# Altium integrated library NSC MiscPower.IntLib: 742 symbols (part 6 of 19)
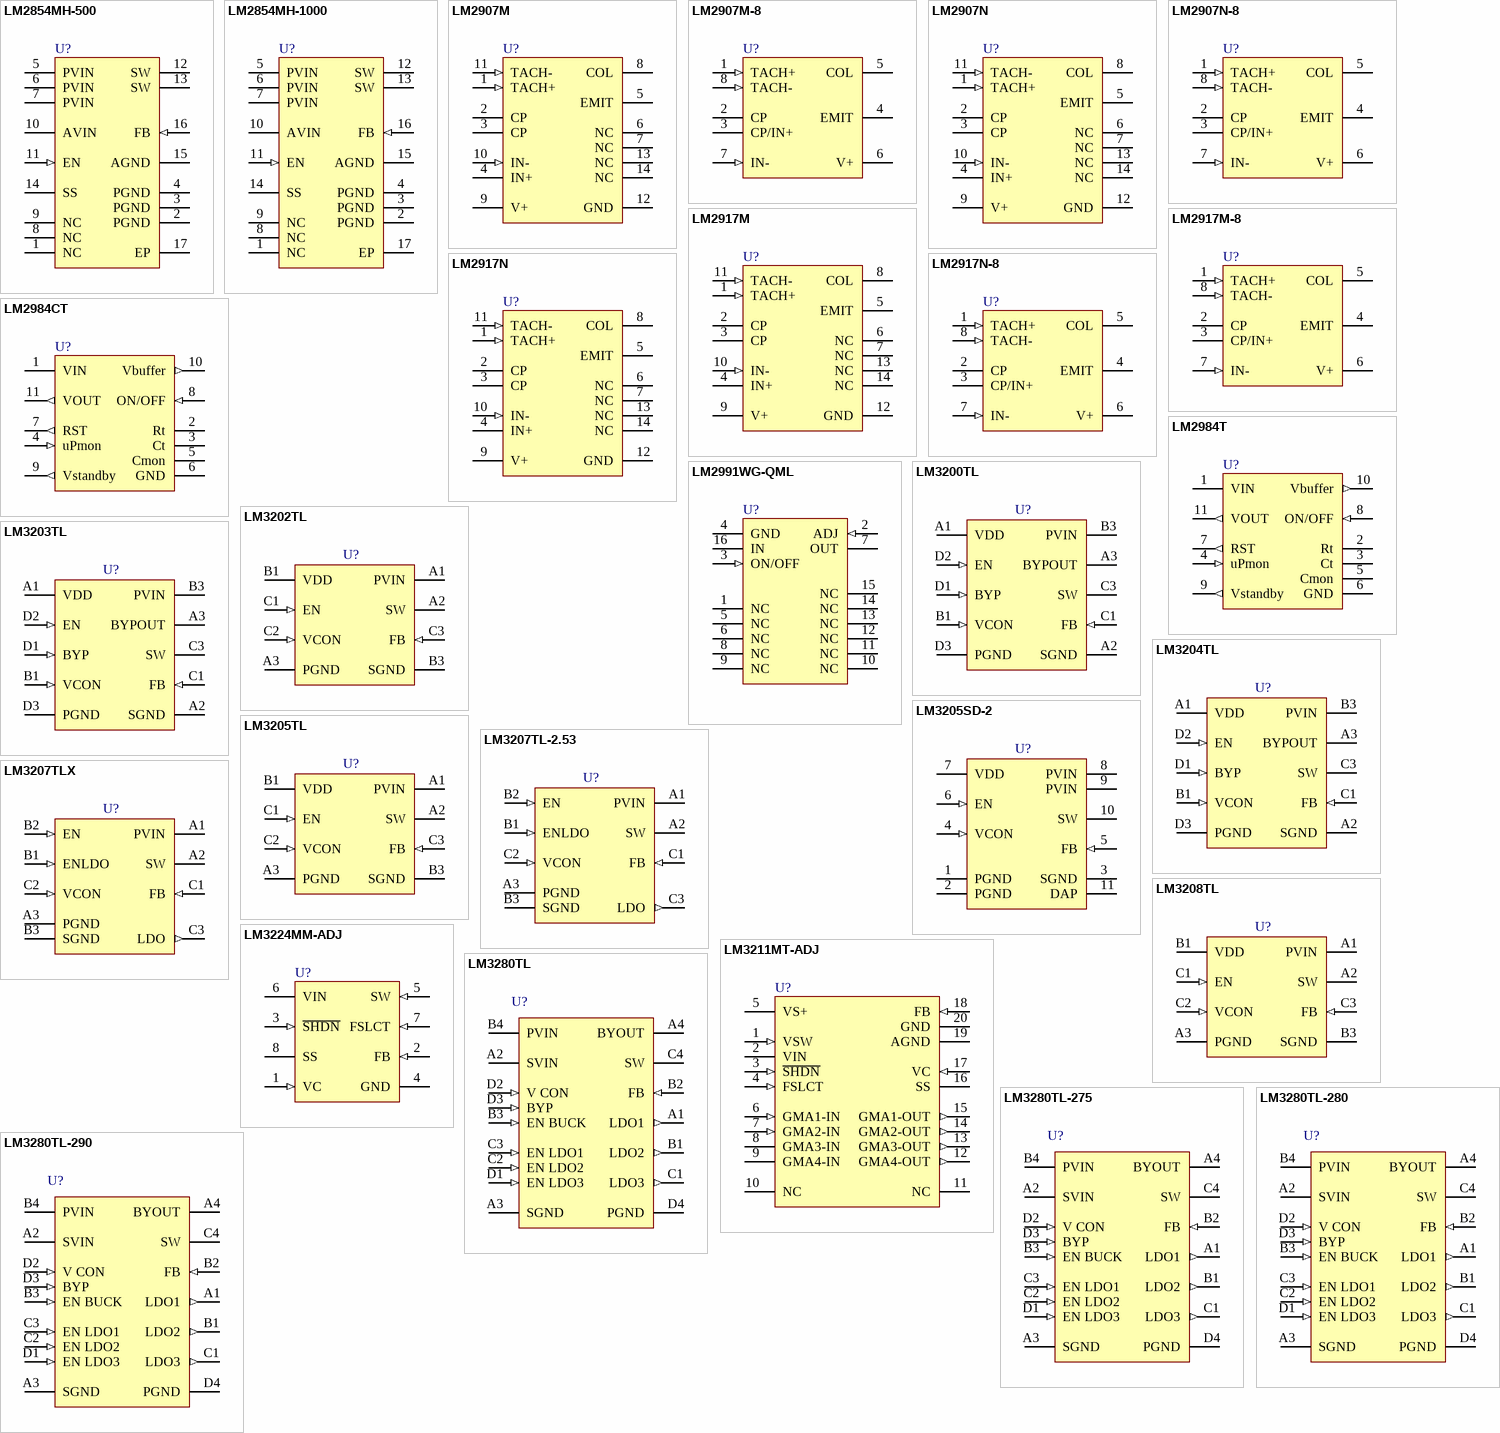
[diagram p30: symbols LM2854MH-500 to LM3280TL-290]

## LM3200TL
designator U?
Miniature, Adjustable, Step-Down DC-DC Converter with Bypass Mode for RF Power Amplifiers; PartNumber: LM3200TL; Manufacturer: National Semiconductor; CompType: MiscPower; PackageTopMarking: XYTT*I SCUB; PowerWise: Y; FirstPublished: 4-Dec-2008; DatasheetVersion: Nov-2005; PackageVersion: revD, Mar-2004; PackageReference: TLP10NHA; Publisher: Altium Limited; PackageDescription: Thin Micro SMD, 10 Bump (Large), Periperal, 0.5mm Pitch; RoHS: Y; PinCount: 10; DigiKeyPartNumber: LM3200TLCT-ND; Code_JEDEC: MO-211-BD; ComponentLink1Description: LM3200 Datasheet; ComponentLink1URL: http://www.national.com/ds/LM/LM3200.pdf; ComponentLink2Description: LM3200 Web Page; ComponentLink2URL: http://www.national.com/pf/LM/LM3200.html; ComponentLink3Description: TLP10NHA Package Page; ComponentLink3URL: http://www.national.com/packaging/folders/tlp10nha.html
footprint TLP10NHA (Micro SMD, 10-Leads, Body 2.17x1.82mm, Pitch 0.5mm, NSC Recommended)
pins: A1 VDD (power), A2 SGND (power), A3 BYPOUT (oe), B1 VCON (in), B3 PVIN (power), C1 FB (in), C3 SW, D1 BYP (in), D2 EN (in), D3 PGND (power)

## LM3202TL
designator U?
650mA Miniature, Adjustable, Step-Down DC-DC Converter for RF Power Amplifiers; PartNumber: LM3202TL; Manufacturer: National Semiconductor; CompType: MiscPower; PackageTopMarking: XVS*I 29; FirstPublished: 4-Dec-2008; DatasheetVersion: Nov-2006; PackageVersion: revC, Jan-2004; PackageReference: TLA08HPA; Publisher: Altium Limited; PackageDescription: Thin Micro SMD, 8 Bump (Large), 0.5mm Pitch; RoHS: Y; PinCount: 8; DigiKeyPartNumber: LM3202TLCT-ND; Code_JEDEC: MO-211-DD; ComponentLink1Description: TLA08HPA Package Page; ComponentLink1URL: http://www.national.com/packaging/folders/tla08hpa.html
footprint TLA08HPA (Micro SMD, 8-Leads, Body 1.84x1.69mm, Pitch 0.5mm, NSC Recommended)
pins: A1 PVIN (power), A2 SW, A3 PGND (power), B1 VDD (power), B3 SGND (power), C1 EN (in), C2 VCON (in), C3 FB (in)

## LM3203TL
designator U?
Miniature, Adjustable, Step-Down DC-DC Converter with Bypass Mode for RF Power Amplifiers; PartNumber: LM3203TL; Manufacturer: National Semiconductor; CompType: MiscPower; PackageTopMarking: XYTT*I SFYB; PowerWise: Y; FirstPublished: 4-Dec-2008; DatasheetVersion: Jul-2005; PackageVersion: revD, Mar-2004; PackageReference: TLP10NHA; Publisher: Altium Limited; PackageDescription: Thin Micro SMD, 10 Bump (Large), Periperal, 0.5mm Pitch; RoHS: Y; PinCount: 10; DigiKeyPartNumber: LM3203TLCT-ND; Code_JEDEC: MO-211-BD; ComponentLink1Description: LM3203 Datasheet; ComponentLink1URL: http://www.national.com/ds/LM/LM3203.pdf; ComponentLink2Description: LM3203 Web Page; ComponentLink2URL: http://www.national.com/pf/LM/LM3203.html; ComponentLink3Description: TLP10NHA Package Page; ComponentLink3URL: http://www.national.com/packaging/folders/tlp10nha.html
footprint TLP10NHA (Micro SMD, 10-Leads, Body 2.17x1.82mm, Pitch 0.5mm, NSC Recommended)
pins: A1 VDD (power), A2 SGND (power), A3 BYPOUT (oe), B1 VCON (in), B3 PVIN (power), C1 FB (in), C3 SW, D1 BYP (in), D2 EN (in), D3 PGND (power)

## LM3204TL
designator U?
Miniature, Adjustable, Step-Down DC-DC Converter with Bypass Mode for RF Power Amplifiers; PartNumber: LM3204TL; Manufacturer: National Semiconductor; CompType: MiscPower; PackageTopMarking: XYTT*I SJDB; PowerWise: Y; FirstPublished: 4-Dec-2008; DatasheetVersion: Nov-2005; PackageVersion: revD, Mar-2004; PackageReference: TLP10NHA; Publisher: Altium Limited; PackageDescription: Thin Micro SMD, 10 Bump (Large), Periperal, 0.5mm Pitch; RoHS: Y; PinCount: 10; DigiKeyPartNumber: LM3204TLCT-ND; Code_JEDEC: MO-211-BD; ComponentLink1Description: LM3204 Datasheet; ComponentLink1URL: http://www.national.com/ds/LM/LM3204.pdf; ComponentLink2Description: LM3204 Web Page; ComponentLink2URL: http://www.national.com/pf/LM/LM3204.html; ComponentLink3Description: TLP10NHA Package Page; ComponentLink3URL: http://www.national.com/packaging/folders/tlp10nha.html
footprint TLP10NHA (Micro SMD, 10-Leads, Body 2.17x1.82mm, Pitch 0.5mm, NSC Recommended)
pins: A1 VDD (power), A2 SGND (power), A3 BYPOUT (oe), B1 VCON (in), B3 PVIN (power), C1 FB (in), C3 SW, D1 BYP (in), D2 EN (in), D3 PGND (power)

## LM3205SD-2
designator U?
650mA Miniature, Adjustable, Step-Down DC-DC Converter for RF Power Amplifiers; PartNumber: LM3205SD-2; Manufacturer: National Semiconductor; CompType: MiscPower; PackageTopMarking: ZXYTT*S006B; PowerWise: Y; FirstPublished: 4-Dec-2008; DatasheetVersion: Jan-2006; PackageVersion: revA, Oct-2003; PackageReference: SDA10A; Publisher: Altium Limited; PackageDescription: LLP, Plastic, Dual, 3 x 3 x 0.8mm Body, 10 Lead, 0.5mm Pitch, No Pullback; RoHS: Y; PinCount: 10; DigiKeyPartNumber: LM3205SD-2-ND; ComponentLink1Description: LM3205 Datasheet; ComponentLink1URL: http://www.national.com/ds/LM/LM3205.pdf; ComponentLink2Description: LM3205 Web Page; ComponentLink2URL: http://www.national.com/pf/LM/LM3205.html; ComponentLink3Description: SDA10A Package Page; ComponentLink3URL: http://www.national.com/packaging/folders/sda10a.html
footprint SDA10A (SON, 10-Leads, Body 3x3 mm, Pitch 0.5mm, NSC Recommended)
pins: 1 PGND (power), 2 PGND (power), 3 SGND (power), 4 VCON (in), 5 FB (in), 6 EN (in), 7 VDD (power), 8 PVIN (power), 9 PVIN (power), 10 SW, 11 DAP (power)

## LM3205TL
designator U?
650mA Miniature, Adjustable, Step-Down DC-DC Converter for RF Power Amplifiers; PartNumber: LM3205TL; Manufacturer: National Semiconductor; CompType: MiscPower; PackageTopMarking: XVS*I 32; PowerWise: Y; FirstPublished: 4-Dec-2008; DatasheetVersion: Jan-2006; PackageVersion: revC, Jan-2004; PackageReference: TLA08GNA; Publisher: Altium Limited; PackageDescription: Thin Micro SMD, 8 Bump (Large), 0.5mm Pitch; RoHS: Y; PinCount: 8; DigiKeyPartNumber: LM3205TLCT-ND; Code_JEDEC: MO-211-DD; ComponentLink1Description: LM3205 Datasheet; ComponentLink1URL: http://www.national.com/ds/LM/LM3205.pdf; ComponentLink2Description: LM3205 Web Page; ComponentLink2URL: http://www.national.com/pf/LM/LM3205.html; ComponentLink3Description: TLA08GNA Package Page; ComponentLink3URL: http://www.national.com/packaging/folders/tla08gna.html
footprint TLA08GNA (Micro SMD, 8-Leads, Body 1.82x1.67mm, Pitch 0.5mm, NSC Recommended)
pins: A1 PVIN (power), A2 SW, A3 PGND (power), B1 VDD (power), B3 SGND (power), C1 EN (in), C2 VCON (in), C3 FB (in)

## LM3207TL-2.53
designator U?
650mA Miniature, Adjustable, Step-Down DC-DC Converter for RF Power Amplifiers; PartNumber: LM3207TL-2.53; Manufacturer: National Semiconductor; CompType: MiscPower; PackageTopMarking: XVS*I 43; PowerWise: N; FirstPublished: 4-Dec-2008; DatasheetVersion: Apr-2007; PackageVersion: revC, Jan-2004; PackageReference: TLA09TTA; Publisher: Altium Limited; PackageDescription: Thin Micro SMD, 9 Bump (Large), 0.5mm Pitch; RoHS: Y; PinCount: 9; DigiKeyPartNumber: LM3207TL-2.53CT-ND; Code_JEDEC: MO-211-DD; ComponentLink1Description: LM3207 Datasheet; ComponentLink1URL: http://www.national.com/ds/LM/LM3207.pdf; ComponentLink2Description: LM3207 Web Page; ComponentLink2URL: http://www.national.com/pf/LM/LM3207.html; ComponentLink3Description: TLA09TTA Package Page; ComponentLink3URL: http://www.national.com/packaging/folders/tla09tta.html
footprint TLA09TTA (Micro SMD, 9-Leads, Body 1.95x1.95mm, Pitch 0.5mm, NSC Recommended)
pins: A1 PVIN (power), A2 SW, A3 PGND (power), B1 ENLDO (in), B2 EN (in), B3 SGND (power), C1 FB (in), C2 VCON (in), C3 LDO (out)

## LM3207TLX
designator U?
650mA Miniature, Adjustable, Step-Down DC-DC Converter for RF Power Amplifiers; PartNumber: LM3207TLX; Manufacturer: National Semiconductor; CompType: MiscPower; PackageTopMarking: XVS*I 34; PowerWise: Y; FirstPublished: 4-Dec-2008; DatasheetVersion: Apr-2007; PackageVersion: revC, Jan-2004; PackageReference: TLA09TTA; Publisher: Altium Limited; PackageDescription: Thin Micro SMD, 9 Bump (Large), 0.5mm Pitch; RoHS: Y; PinCount: 9; DigiKeyPartNumber: LM3207TLX-ND; Code_JEDEC: MO-211-DD; ComponentLink1Description: LM3207 Datasheet; ComponentLink1URL: http://www.national.com/ds/LM/LM3207.pdf; ComponentLink2Description: LM3207 Web Page; ComponentLink2URL: http://www.national.com/pf/LM/LM3207.html; ComponentLink3Description: TLA09TTA Package Page; ComponentLink3URL: http://www.national.com/packaging/folders/tla09tta.html
footprint TLA09TTA (Micro SMD, 9-Leads, Body 1.95x1.95mm, Pitch 0.5mm, NSC Recommended)
pins: A1 PVIN (power), A2 SW, A3 PGND (power), B1 ENLDO (in), B2 EN (in), B3 SGND (power), C1 FB (in), C2 VCON (in), C3 LDO (out)

## LM3208TL
designator U?
650mA Miniature, Adjustable, Step-Down DC-DC Converter for RF Power Amplifiers; PartNumber: LM3208TL; Manufacturer: National Semiconductor; CompType: MiscPower; PackageTopMarking: XVS*I 33; PowerWise: Y; FirstPublished: 4-Dec-2008; DatasheetVersion: Apr-2006; PackageVersion: revC, Jan-2004; PackageReference: TLA08GNA; Publisher: Altium Limited; PackageDescription: Thin Micro SMD, 8 Bump (Large), 0.5mm Pitch; RoHS: Y; PinCount: 8; DigiKeyPartNumber: LM3208TLCT-ND; Code_JEDEC: MO-211-DD; ComponentLink1Description: LM3208 Datasheet; ComponentLink1URL: http://www.national.com/ds/LM/LM3208.pdf; ComponentLink2Description: LM3208 Web Page; ComponentLink2URL: http://www.national.com/pf/LM/LM3208.html; ComponentLink3Description: TLA08GNA Package Page; ComponentLink3URL: http://www.national.com/packaging/folders/tla08gna.html
footprint TLA08GNA (Micro SMD, 8-Leads, Body 1.82x1.67mm, Pitch 0.5mm, NSC Recommended)
pins: A1 PVIN (power), A2 SW, A3 PGND (power), B1 VDD (power), B3 SGND (power), C1 EN (in), C2 VCON (in), C3 FB (in)

## LM3211MT-ADJ
designator U?
Step-up PWM DC/DC Converter Integrated with 4 Buffers; PartNumber: LM3211MT-ADJ; Manufacturer: National Semiconductor; CompType: MiscPower; PackageTopMarking: NSUZXYTT*LM3211*MTADJ; FirstPublished: 4-Dec-2008; DatasheetVersion: Feb-2004; PackageVersion: revE, Mar-2003; PackageReference: MTC20; Publisher: Altium Limited; PackageDescription: Molded TSSOP, Jedec, 6.5 x 4.4 x 0.9mm Body, 20 Lead, 0.65mm Pitch; RoHS: Y; PinCount: 20; DigiKeyPartNumber: LM3211MT-ADJ-ND; Code_JEDEC: MO-153-AC; ComponentLink1Description: LM3211 Datasheet; ComponentLink1URL: http://www.national.com/ds/LM/LM3211.pdf; ComponentLink2Description: LM3211 Web Page; ComponentLink2URL: http://www.national.com/pf/LM/LM3211.html; ComponentLink3Description: MTC20 Package Page; ComponentLink3URL: http://www.national.com/packaging/folders/mtc20.html
footprint MTC20_N (TSOP, 20-Leads, Body 6.5x4.4mm, Pitch 0.65mm, IPC Medium Density)
footprint MTC20_L (TSOP, 20-Leads, Body 6.5x4.4mm, Pitch 0.65mm, IPC High Density)
footprint MTC20_M (TSOP, 20-Leads, Body 6.5x4.4mm, Pitch 0.65mm, IPC Low Density)
pins: 1 VSW (in), 2 VIN (power), 3 ~{SHDN} (in), 4 FSLCT (in), 5 VS+ (power), 6 GMA1-IN (in), 7 GMA2-IN (in), 8 GMA3-IN, 9 GMA4-IN (power), 10 NC, 11 NC, 12 GMA4-OUT (out), 13 GMA3-OUT (out), 14 GMA2-OUT (out), 15 GMA1-OUT (out), 16 SS, 17 VC (in), 18 FB (in), 19 AGND (power), 20 GND (power)

## LM3224MM-ADJ
designator U?
615kHz/1.25MHz Step-up PWM DC/DC Converter; PartNumber: LM3224MM-ADJ; Manufacturer: National Semiconductor; CompType: MiscPower; PackageTopMarking: ZXTT*SEKB; PowerWise: N; FirstPublished: 4-Dec-2008; DatasheetVersion: Sep-2005; PackageVersion: revF, Apr-2008; PackageReference: MUA08A; Publisher: Altium Limited; PackageDescription: MINI SOIC, .118 x .118 x .034in, 8 Lead, .0256in Pitch; RoHS: Y; PinCount: 8; DigiKeyPartNumber: LM3224MM-ADJEV-ND; Code_JEDEC: MO-187-AA; ComponentLink1Description: LM3224 Datasheet; ComponentLink1URL: http://www.national.com/ds/LM/LM3224.pdf; ComponentLink2Description: LM3224 Web Page; ComponentLink2URL: http://www.national.com/pf/LM/LM3224.html; ComponentLink3Description: MUA08A Package Page; ComponentLink3URL: http://www.national.com/packaging/folders/mua08a.html
footprint MUA08A_N (TSOP, 8-Leads, Body 3x3mm, Pitch 0.65mm, IPC Medium Density)
footprint MUA08A_L (TSOP, 8-Leads, Body 3x3mm, Pitch 0.65mm, IPC High Density)
footprint MUA08A_M (TSOP, 8-Leads, Body 3x3mm, Pitch 0.65mm, IPC Low Density)
pins: 1 VC (in), 2 FB (in), 3 ~{SHDN} (in), 4 GND (power), 5 SW (in), 6 VIN (power), 7 FSLCT (in), 8 SS

## LM3280TL
designator U?
Adjustable Step-Down DC-DC Converter and 3 LDOs for RF Power Management; PartNumber: LM3280TL; Manufacturer: National Semiconductor; CompType: MiscPower; PackageTopMarking: XYTT*I V001; PowerWise: N; FirstPublished: 4-Dec-2008; DatasheetVersion: Jan-2007; PackageVersion: revC, Jan-2004; PackageReference: TLA16QQA; Publisher: Altium Limited; PackageDescription: Thin Micro SMD, 16 Bump (Large), 0.5mm Pitch; RoHS: Y; PinCount: 16; DigiKeyPartNumber: LM3280TLEV-ND; Code_JEDEC: MO-211-DF; ComponentLink1Description: LM3280 Datasheet; ComponentLink1URL: http://www.national.com/ds/LM/LM3280.pdf; ComponentLink2Description: LM3280 Web Page; ComponentLink2URL: http://www.national.com/pf/LM/LM3280.html; ComponentLink3Description: TLA16QQA Package Page; ComponentLink3URL: http://www.national.com/packaging/folders/tla16qqa.html
footprint TLA16QQA (Micro SMD, 16-Leads, Body 2.35x2.35mm, Pitch 0.5mm, NSC Recommended)
pins: A1 LDO1 (out), A2 SVIN (power), A3 SGND (power), A4 BYOUT (oc), B1 LDO2 (out), B2 FB (in), B3 EN BUCK (in), B4 PVIN (power), C1 LDO3 (out), C2 EN LDO2 (in), C3 EN LDO1 (in), C4 SW (power), D1 EN LDO3 (in), D2 V CON (in), D3 BYP (in), D4 PGND (power)

## LM3280TL-275
designator U?
Adjustable Step-Down DC-DC Converter and 3 LDOs for RF Power Management; PartNumber: LM3280TL-275; Manufacturer: National Semiconductor; CompType: MiscPower; PackageTopMarking: XYTT*I V002; PowerWise: N; FirstPublished: 4-Dec-2008; DatasheetVersion: Jan-2007; PackageVersion: revC, Jan-2004; PackageReference: TLA16QQA; Publisher: Altium Limited; PackageDescription: Thin Micro SMD, 16 Bump (Large), 0.5mm Pitch; RoHS: Y; PinCount: 16; DigiKeyPartNumber: LM3280TL-275CT-ND; Code_JEDEC: MO-211-DF; ComponentLink1Description: LM3280 Datasheet; ComponentLink1URL: http://www.national.com/ds/LM/LM3280.pdf; ComponentLink2Description: LM3280 Web Page; ComponentLink2URL: http://www.national.com/pf/LM/LM3280.html; ComponentLink3Description: TLA16QQA Package Page; ComponentLink3URL: http://www.national.com/packaging/folders/tla16qqa.html
footprint TLA16QQA (Micro SMD, 16-Leads, Body 2.35x2.35mm, Pitch 0.5mm, NSC Recommended)
pins: A1 LDO1 (out), A2 SVIN (power), A3 SGND (power), A4 BYOUT (oc), B1 LDO2 (out), B2 FB (in), B3 EN BUCK (in), B4 PVIN (power), C1 LDO3 (out), C2 EN LDO2 (in), C3 EN LDO1 (in), C4 SW (power), D1 EN LDO3 (in), D2 V CON (in), D3 BYP (in), D4 PGND (power)

## LM3280TL-280
designator U?
Adjustable Step-Down DC-DC Converter and 3 LDOs for RF Power Management; PartNumber: LM3280TL-280; Manufacturer: National Semiconductor; CompType: MiscPower; PackageTopMarking: XYTT*I V003; PowerWise: N; FirstPublished: 4-Dec-2008; DatasheetVersion: Jan-2007; PackageVersion: revC, Jan-2004; PackageReference: TLA16QQA; Publisher: Altium Limited; PackageDescription: Thin Micro SMD, 16 Bump (Large), 0.5mm Pitch; RoHS: Y; PinCount: 16; DigiKeyPartNumber: LM3280TL-280CT-ND; Code_JEDEC: MO-211-DF; ComponentLink1Description: LM3280 Datasheet; ComponentLink1URL: http://www.national.com/ds/LM/LM3280.pdf; ComponentLink2Description: LM3280 Web Page; ComponentLink2URL: http://www.national.com/pf/LM/LM3280.html; ComponentLink3Description: TLA16QQA Package Page; ComponentLink3URL: http://www.national.com/packaging/folders/tla16qqa.html
footprint TLA16QQA (Micro SMD, 16-Leads, Body 2.35x2.35mm, Pitch 0.5mm, NSC Recommended)
pins: A1 LDO1 (out), A2 SVIN (power), A3 SGND (power), A4 BYOUT (oc), B1 LDO2 (out), B2 FB (in), B3 EN BUCK (in), B4 PVIN (power), C1 LDO3 (out), C2 EN LDO2 (in), C3 EN LDO1 (in), C4 SW (power), D1 EN LDO3 (in), D2 V CON (in), D3 BYP (in), D4 PGND (power)

## LM3280TL-290
designator U?
Adjustable Step-Down DC-DC Converter and 3 LDOs for RF Power Management; PartNumber: LM3280TL-290; Manufacturer: National Semiconductor; CompType: MiscPower; PackageTopMarking: XYTT*I V004; PowerWise: N; FirstPublished: 4-Dec-2008; DatasheetVersion: Jan-2007; PackageVersion: revC, Jan-2004; PackageReference: TLA16QQA; Publisher: Altium Limited; PackageDescription: Thin Micro SMD, 16 Bump (Large), 0.5mm Pitch; RoHS: Y; PinCount: 16; DigiKeyPartNumber: LM3280TL-290CT-ND; Code_JEDEC: MO-211-DF; ComponentLink1Description: LM3280 Datasheet; ComponentLink1URL: http://www.national.com/ds/LM/LM3280.pdf; ComponentLink2Description: LM3280 Web Page; ComponentLink2URL: http://www.national.com/pf/LM/LM3280.html; ComponentLink3Description: TLA16QQA Package Page; ComponentLink3URL: http://www.national.com/packaging/folders/tla16qqa.html
footprint TLA16QQA (Micro SMD, 16-Leads, Body 2.35x2.35mm, Pitch 0.5mm, NSC Recommended)
pins: A1 LDO1 (out), A2 SVIN (power), A3 SGND (power), A4 BYOUT (oc), B1 LDO2 (out), B2 FB (in), B3 EN BUCK (in), B4 PVIN (power), C1 LDO3 (out), C2 EN LDO2 (in), C3 EN LDO1 (in), C4 SW (power), D1 EN LDO3 (in), D2 V CON (in), D3 BYP (in), D4 PGND (power)

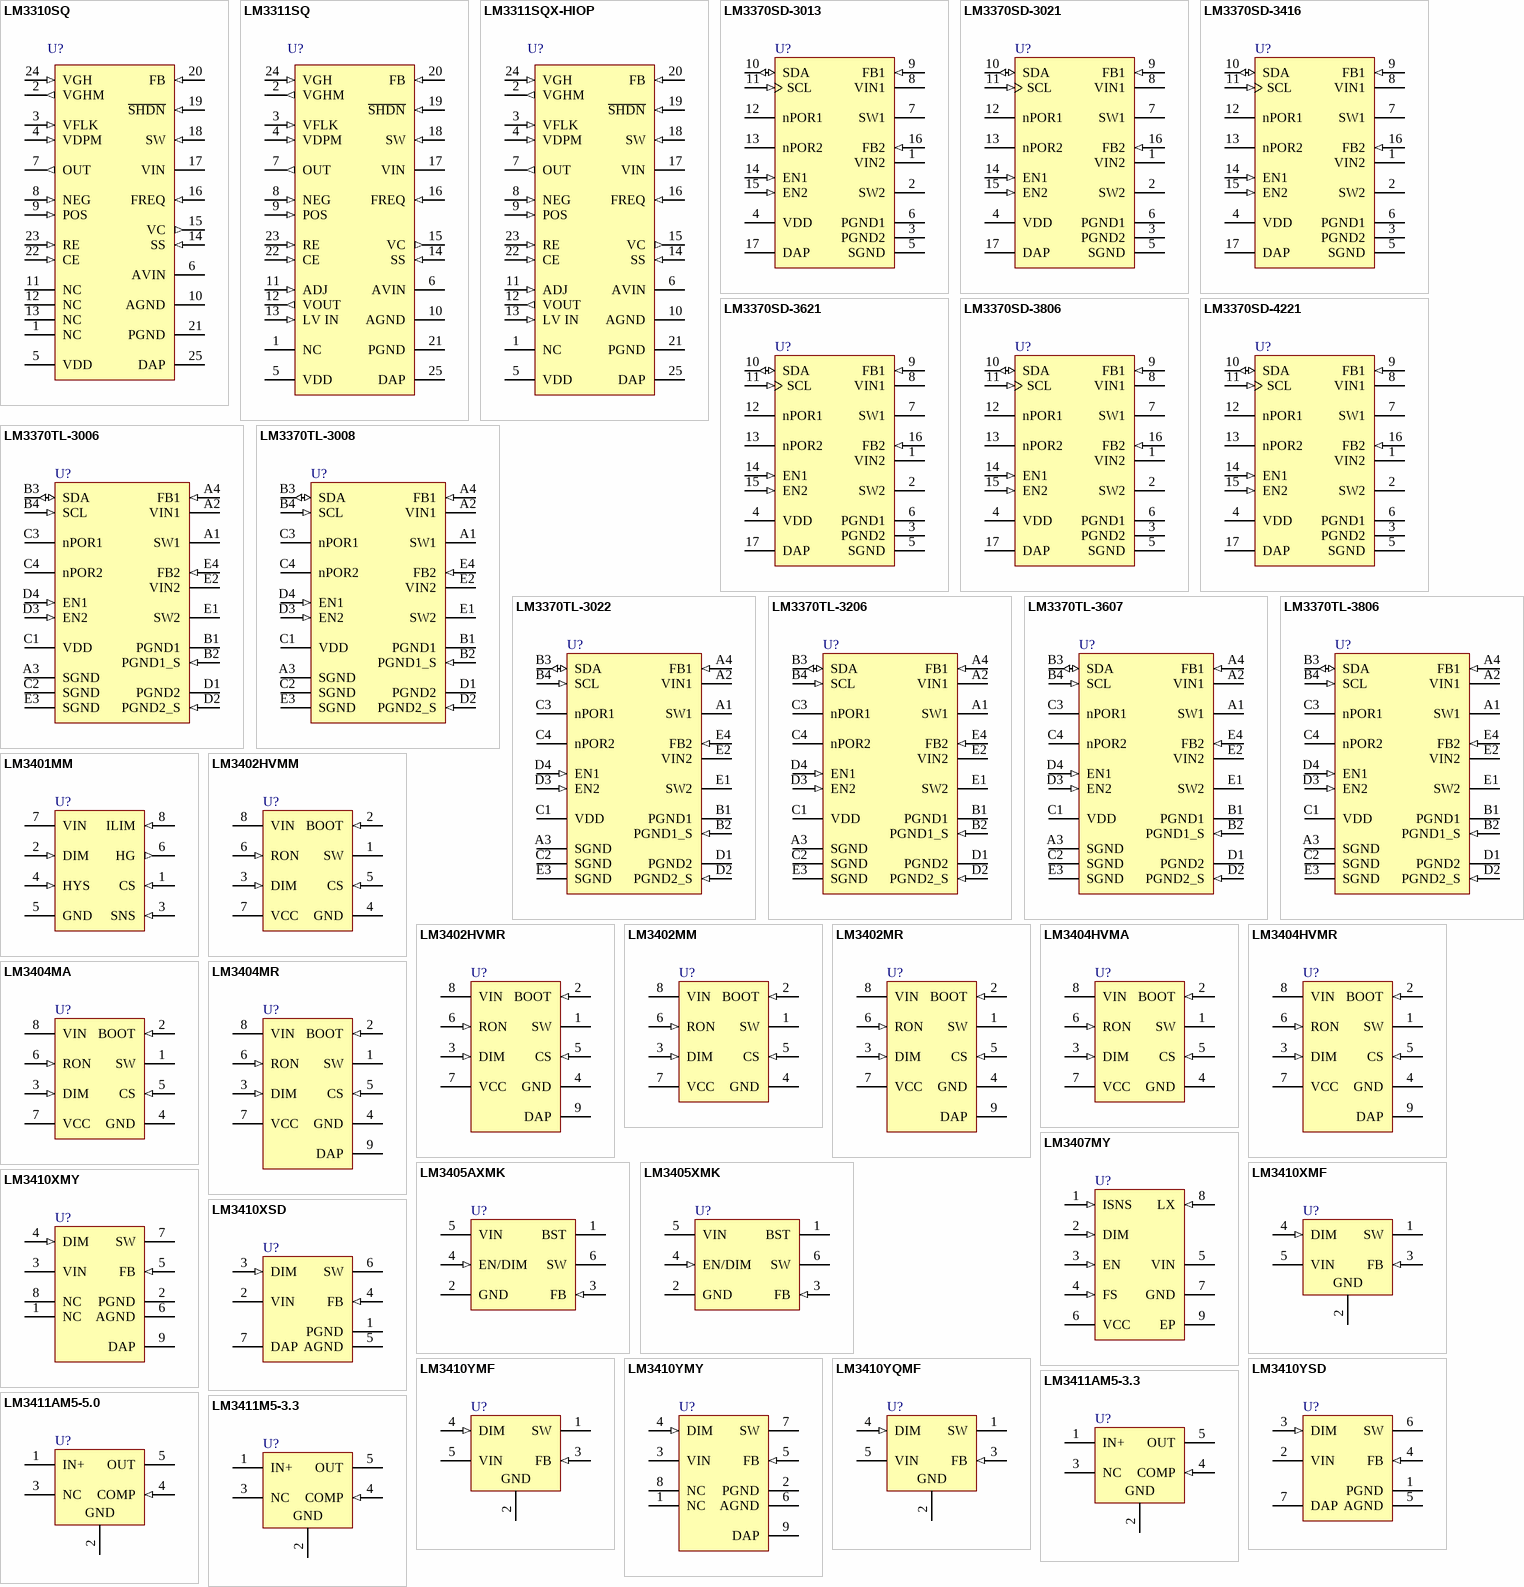
[diagram p7: symbols LM3310SQ to LM3411M5-3.3]

## LM3310SQ
designator U?
Step-Up PWM DC/DC Converter with Integrated Op-Amp and Gate Pulse Modulation Switch; PartNumber: LM3310SQ; Manufacturer: National Semiconductor; CompType: MiscPower; PackageTopMarking: NS*UZXYTT*L3310SQ; PowerWise: N; FirstPublished: 4-Dec-2008; DatasheetVersion: Nov-2007; PackageVersion: revB, Aug-2003; PackageReference: SQA24A; Publisher: Altium Limited; PackageDescription: LLP, Plastic, Quad, 4 x 4 x 0.8mm Body, 24 Lead, 0.5mm Pitch, No Pullback; RoHS: Y; PinCount: 24; DigiKeyPartNumber: LM3310SQCT-ND; Code_JEDEC: MO-220-WGGD-6; ComponentLink1Description: LM3310 Datasheet; ComponentLink1URL: http://www.national.com/ds/LM/LM3310.pdf; ComponentLink2Description: LM3310 Web Page; ComponentLink2URL: http://www.national.com/pf/LM/LM3310.html; ComponentLink3Description: SQA24A Package Page; ComponentLink3URL: http://www.national.com/packaging/folders/sqa24a.html
footprint SQA24A (QFN, 24-Leads, Body 4x4mm, Pitch 0.5mm, NSC Recommended)
pins: 1 NC, 2 VGHM (out), 3 VFLK (in), 4 VDPM (in), 5 VDD (power), 6 AVIN (power), 7 OUT (out), 8 NEG (in), 9 POS (in), 10 AGND (power), 11 NC, 12 NC, 13 NC, 14 SS (in), 15 VC (out), 16 FREQ (in), 17 VIN (power), 18 SW (in), 19 ~{SHDN} (in), 20 FB (in), 21 PGND (power), 22 CE (in), 23 RE (in), 24 VGH (in), 25 DAP (power)

## LM3311SQ
designator U?
Step-Up PWM DC/DC Converter with Integrated LDO, Op-Amp, and Gate Pulse Modulation Switch; PartNumber: LM3311SQ; Manufacturer: National Semiconductor; CompType: MiscPower; PackageTopMarking: NS*UZXYTT*L3311SQ; FirstPublished: 4-Dec-2008; DatasheetVersion: Nov-2007; PackageVersion: revB, Aug-2003; PackageReference: SQA24A; Publisher: Altium Limited; PackageDescription: LLP, Plastic, Quad, 4 x 4 x 0.8mm Body, 24 Lead, 0.5mm Pitch, No Pullback; RoHS: Y; PinCount: 24; DigiKeyPartNumber: LM3311SQCT-ND; Code_JEDEC: MO-220-WGGD-6; ComponentLink1Description: LM3311 Datasheet; ComponentLink1URL: http://www.national.com/ds/LM/LM3311.pdf; ComponentLink2Description: LM3311 Web Page; ComponentLink2URL: http://www.national.com/pf/LM/LM3311.html; ComponentLink3Description: SQA24A Package Page; ComponentLink3URL: http://www.national.com/packaging/folders/sqa24a.html
footprint SQA24A (QFN, 24-Leads, Body 4x4mm, Pitch 0.5mm, NSC Recommended)
pins: 1 NC, 2 VGHM (out), 3 VFLK (in), 4 VDPM (in), 5 VDD (power), 6 AVIN (power), 7 OUT (out), 8 NEG (in), 9 POS (in), 10 AGND (power), 11 ADJ (in), 12 VOUT (out), 13 LV IN (in), 14 SS (in), 15 VC (out), 16 FREQ (in), 17 VIN (power), 18 SW (in), 19 ~{SHDN} (in), 20 FB (in), 21 PGND (power), 22 CE (in), 23 RE (in), 24 VGH (in), 25 DAP (power)

## LM3311SQX-HIOP
designator U?
Step-Up PWM DC/DC Converter with Integrated LDO, Op-Amp, and Gate Pulse Modulation Switch; PartNumber: LM3311SQX-HIOP; Manufacturer: National Semiconductor; CompType: MiscPower; PackageTopMarking: NS*UZXYTT*L3311HP; PowerWise: N; FirstPublished: 4-Dec-2008; DatasheetVersion: Nov-2007; PackageVersion: revB, Aug-2003; PackageReference: SQA24A; Publisher: Altium Limited; PackageDescription: LLP, Plastic, Quad, 4 x 4 x 0.8mm Body, 24 Lead, 0.5mm Pitch, No Pullback; RoHS: Y; PinCount: 24; DigiKeyPartNumber: LM3311SQX-HIOP-ND; Code_JEDEC: MO-220-WGGD-6; ComponentLink1Description: LM3311 Datasheet; ComponentLink1URL: http://www.national.com/ds/LM/LM3311.pdf; ComponentLink2Description: LM3311 Web Page; ComponentLink2URL: http://www.national.com/pf/LM/LM3311.html; ComponentLink3Description: SQA24A Package Page; ComponentLink3URL: http://www.national.com/packaging/folders/sqa24a.html
footprint SQA24A (QFN, 24-Leads, Body 4x4mm, Pitch 0.5mm, NSC Recommended)
pins: 1 NC, 2 VGHM (out), 3 VFLK (in), 4 VDPM (in), 5 VDD (power), 6 AVIN (power), 7 OUT (out), 8 NEG (in), 9 POS (in), 10 AGND (power), 11 ADJ (in), 12 VOUT (out), 13 LV IN (in), 14 SS (in), 15 VC (out), 16 FREQ (in), 17 VIN (power), 18 SW (in), 19 ~{SHDN} (in), 20 FB (in), 21 PGND (power), 22 CE (in), 23 RE (in), 24 VGH (in), 25 DAP (power)

## LM3370SD-3013
designator U?
Dual Synchronous Step-Down DC-DC Converter with Dynamic Voltage Scaling Function; PartNumber: LM3370SD-3013; Manufacturer: National Semiconductor; CompType: MiscPower; PackageTopMarking: NS*UZXYTT*S0003UB; PowerWise: Y; FirstPublished: 4-Dec-2008; DatasheetVersion: Jan-2008; PackageVersion: revA, Dec-2004; PackageReference: SDA16B; Publisher: Altium Limited; PackageDescription: LLP, Plastic, Dual, 5 x 4 x 0.8mm, 16 Lead, 0.5mm Pitch, No Pullback; RoHS: Y; PinCount: 16; DigiKeyPartNumber: LM3370SD-3013CT-ND; ComponentLink1Description: LM3370 Datasheet; ComponentLink1URL: http://www.national.com/ds/LM/LM3370.pdf; ComponentLink2Description: LM3370 Web Page; ComponentLink2URL: http://www.national.com/pf/LM/LM3370.html; ComponentLink3Description: SDA16B Package Page; ComponentLink3URL: http://www.national.com/packaging/folders/sda16b.html
footprint SDA16B (SON, 16-Leads, Body 5x4mm, Pitch 0.5mm, NSC Recommended)
pins: 1 VIN2 (power) "Power supply voltage input to PFET and NFET switches for Buck 2", 2 SW2 (power) "Buck 2 Switch Pin", 3 PGND2 (power) "Buck 2 Power Ground", 4 VDD (power) "Signal supply voltage input, VDDmust be equal or greater of the two inputs (VIN1& VIN2)", 5 SGND (power) "Signal GND", 6 PGND1 (power) "Buck 1 Power Ground", 7 SW1 (power) "Buck 1 Switch Pin", 8 VIN1 (power) "Power supply voltage input to PFET and NFET switches for Buck 1", 9 FB1 (in) "Analog Feedback Input for Buck 1", 10 SDA (io) "I2C Compatible Data, a 2 kOhm pull up resistor is required", 11 SCL (in) "I2C Compatible Clock, a 2 kOhm pull up resistor is required", 12 nPOR1 (oc) "Power ON Reset for Buck 1, Open drain output Low when Buck 1 output is 92% of target output.", 13 nPOR2 (oc) "Power ON Reset for Buck 2, Open drain output Low when Buck 2 output is 92% of target output.", 14 EN1 (in) "Buck 1 Enable", 15 EN2 (in) "Buck 2 Enable", 16 FB2 (in) "Analog feedback for Buck 2", 17 DAP (power)

## LM3370SD-3021
designator U?
Dual Synchronous Step-Down DC-DC Converter with Dynamic Voltage Scaling Function; PartNumber: LM3370SD-3021; Manufacturer: National Semiconductor; CompType: MiscPower; PackageTopMarking: NS*UZXYTT*S0003TB; PowerWise: Y; FirstPublished: 4-Dec-2008; DatasheetVersion: Jan-2008; PackageVersion: revA, Dec-2004; PackageReference: SDA16B; Publisher: Altium Limited; PackageDescription: LLP, Plastic, Dual, 5 x 4 x 0.8mm, 16 Lead, 0.5mm Pitch, No Pullback; RoHS: Y; PinCount: 16; DigiKeyPartNumber: LM3370SD-3021EV-ND; ComponentLink1Description: LM3370 Datasheet; ComponentLink1URL: http://www.national.com/ds/LM/LM3370.pdf; ComponentLink2Description: LM3370 Web Page; ComponentLink2URL: http://www.national.com/pf/LM/LM3370.html; ComponentLink3Description: SDA16B Package Page; ComponentLink3URL: http://www.national.com/packaging/folders/sda16b.html
footprint SDA16B (SON, 16-Leads, Body 5x4mm, Pitch 0.5mm, NSC Recommended)
pins: 1 VIN2 (power) "Power supply voltage input to PFET and NFET switches for Buck 2", 2 SW2 (power) "Buck 2 Switch Pin", 3 PGND2 (power) "Buck 2 Power Ground", 4 VDD (power) "Signal supply voltage input, VDDmust be equal or greater of the two inputs (VIN1& VIN2)", 5 SGND (power) "Signal GND", 6 PGND1 (power) "Buck 1 Power Ground", 7 SW1 (power) "Buck 1 Switch Pin", 8 VIN1 (power) "Power supply voltage input to PFET and NFET switches for Buck 1", 9 FB1 (in) "Analog Feedback Input for Buck 1", 10 SDA (io) "I2C Compatible Data, a 2 kOhm pull up resistor is required", 11 SCL (in) "I2C Compatible Clock, a 2 kOhm pull up resistor is required", 12 nPOR1 (oc) "Power ON Reset for Buck 1, Open drain output Low when Buck 1 output is 92% of target output.", 13 nPOR2 (oc) "Power ON Reset for Buck 2, Open drain output Low when Buck 2 output is 92% of target output.", 14 EN1 (in) "Buck 1 Enable", 15 EN2 (in) "Buck 2 Enable", 16 FB2 (in) "Analog feedback for Buck 2", 17 DAP (power)

## LM3370SD-3416
designator U?
Dual Synchronous Step-Down DC-DC Converter with Dynamic Voltage Scaling Function; PartNumber: LM3370SD-3416; Manufacturer: National Semiconductor; CompType: MiscPower; PackageTopMarking: NS*UZXYTT*S0003VB; PowerWise: Y; FirstPublished: 4-Dec-2008; DatasheetVersion: Jan-2008; PackageVersion: revA, Dec-2004; PackageReference: SDA16B; Publisher: Altium Limited; PackageDescription: LLP, Plastic, Dual, 5 x 4 x 0.8mm, 16 Lead, 0.5mm Pitch, No Pullback; RoHS: Y; PinCount: 16; DigiKeyPartNumber: LM3370SD-3416CT-ND; ComponentLink1Description: LM3370 Datasheet; ComponentLink1URL: http://www.national.com/ds/LM/LM3370.pdf; ComponentLink2Description: LM3370 Web Page; ComponentLink2URL: http://www.national.com/pf/LM/LM3370.html; ComponentLink3Description: SDA16B Package Page; ComponentLink3URL: http://www.national.com/packaging/folders/sda16b.html
footprint SDA16B (SON, 16-Leads, Body 5x4mm, Pitch 0.5mm, NSC Recommended)
pins: 1 VIN2 (power) "Power supply voltage input to PFET and NFET switches for Buck 2", 2 SW2 (power) "Buck 2 Switch Pin", 3 PGND2 (power) "Buck 2 Power Ground", 4 VDD (power) "Signal supply voltage input, VDDmust be equal or greater of the two inputs (VIN1& VIN2)", 5 SGND (power) "Signal GND", 6 PGND1 (power) "Buck 1 Power Ground", 7 SW1 (power) "Buck 1 Switch Pin", 8 VIN1 (power) "Power supply voltage input to PFET and NFET switches for Buck 1", 9 FB1 (in) "Analog Feedback Input for Buck 1", 10 SDA (io) "I2C Compatible Data, a 2 kOhm pull up resistor is required", 11 SCL (in) "I2C Compatible Clock, a 2 kOhm pull up resistor is required", 12 nPOR1 (oc) "Power ON Reset for Buck 1, Open drain output Low when Buck 1 output is 92% of target output.", 13 nPOR2 (oc) "Power ON Reset for Buck 2, Open drain output Low when Buck 2 output is 92% of target output.", 14 EN1 (in) "Buck 1 Enable", 15 EN2 (in) "Buck 2 Enable", 16 FB2 (in) "Analog feedback for Buck 2", 17 DAP (power)

## LM3370SD-3621
designator U?
Dual Synchronous Step-Down DC-DC Converter with Dynamic Voltage Scaling Function; PartNumber: LM3370SD-3621; Manufacturer: National Semiconductor; CompType: MiscPower; PackageTopMarking: NS*UZXYTT*S0004AB; PowerWise: N; FirstPublished: 4-Dec-2008; DatasheetVersion: Jan-2008; PackageVersion: revA, Dec-2004; PackageReference: SDA16B; Publisher: Altium Limited; PackageDescription: LLP, Plastic, Dual, 5 x 4 x 0.8mm, 16 Lead, 0.5mm Pitch, No Pullback; RoHS: Y; PinCount: 16; DigiKeyPartNumber: LM3370SD-3621-ND; ComponentLink1Description: LM3370 Datasheet; ComponentLink1URL: http://www.national.com/ds/LM/LM3370.pdf; ComponentLink2Description: LM3370 Web Page; ComponentLink2URL: http://www.national.com/pf/LM/LM3370.html; ComponentLink3Description: SDA16B Package Page; ComponentLink3URL: http://www.national.com/packaging/folders/sda16b.html
footprint SDA16B (SON, 16-Leads, Body 5x4mm, Pitch 0.5mm, NSC Recommended)
pins: 1 VIN2 (power) "Power supply voltage input to PFET and NFET switches for Buck 2", 2 SW2 (power) "Buck 2 Switch Pin", 3 PGND2 (power) "Buck 2 Power Ground", 4 VDD (power) "Signal supply voltage input, VDDmust be equal or greater of the two inputs (VIN1& VIN2)", 5 SGND (power) "Signal GND", 6 PGND1 (power) "Buck 1 Power Ground", 7 SW1 (power) "Buck 1 Switch Pin", 8 VIN1 (power) "Power supply voltage input to PFET and NFET switches for Buck 1", 9 FB1 (in) "Analog Feedback Input for Buck 1", 10 SDA (io) "I2C Compatible Data, a 2 kOhm pull up resistor is required", 11 SCL (in) "I2C Compatible Clock, a 2 kOhm pull up resistor is required", 12 nPOR1 (oc) "Power ON Reset for Buck 1, Open drain output Low when Buck 1 output is 92% of target output.", 13 nPOR2 (oc) "Power ON Reset for Buck 2, Open drain output Low when Buck 2 output is 92% of target output.", 14 EN1 (in) "Buck 1 Enable", 15 EN2 (in) "Buck 2 Enable", 16 FB2 (in) "Analog feedback for Buck 2", 17 DAP (power)

## LM3370SD-3806
designator U?
Dual Synchronous Step-Down DC-DC Converter with Dynamic Voltage Scaling Function; PartNumber: LM3370SD-3806; Manufacturer: National Semiconductor; CompType: MiscPower; PackageTopMarking: NS*UZXYTT*S0003XB; PowerWise: Y; FirstPublished: 4-Dec-2008; DatasheetVersion: Jan-2008; PackageVersion: revA, Dec-2004; PackageReference: SDA16B; Publisher: Altium Limited; PackageDescription: LLP, Plastic, Dual, 5 x 4 x 0.8mm, 16 Lead, 0.5mm Pitch, No Pullback; RoHS: Y; PinCount: 16; DigiKeyPartNumber: LM3370SD-3806CT-ND; ComponentLink1Description: LM3370 Datasheet; ComponentLink1URL: http://www.national.com/ds/LM/LM3370.pdf; ComponentLink2Description: LM3370 Web Page; ComponentLink2URL: http://www.national.com/pf/LM/LM3370.html; ComponentLink3Description: SDA16B Package Page; ComponentLink3URL: http://www.national.com/packaging/folders/sda16b.html
footprint SDA16B (SON, 16-Leads, Body 5x4mm, Pitch 0.5mm, NSC Recommended)
pins: 1 VIN2 (power) "Power supply voltage input to PFET and NFET switches for Buck 2", 2 SW2 (power) "Buck 2 Switch Pin", 3 PGND2 (power) "Buck 2 Power Ground", 4 VDD (power) "Signal supply voltage input, VDDmust be equal or greater of the two inputs (VIN1& VIN2)", 5 SGND (power) "Signal GND", 6 PGND1 (power) "Buck 1 Power Ground", 7 SW1 (power) "Buck 1 Switch Pin", 8 VIN1 (power) "Power supply voltage input to PFET and NFET switches for Buck 1", 9 FB1 (in) "Analog Feedback Input for Buck 1", 10 SDA (io) "I2C Compatible Data, a 2 kOhm pull up resistor is required", 11 SCL (in) "I2C Compatible Clock, a 2 kOhm pull up resistor is required", 12 nPOR1 (oc) "Power ON Reset for Buck 1, Open drain output Low when Buck 1 output is 92% of target output.", 13 nPOR2 (oc) "Power ON Reset for Buck 2, Open drain output Low when Buck 2 output is 92% of target output.", 14 EN1 (in) "Buck 1 Enable", 15 EN2 (in) "Buck 2 Enable", 16 FB2 (in) "Analog feedback for Buck 2", 17 DAP (power)

## LM3370SD-4221
designator U?
Dual Synchronous Step-Down DC-DC Converter with Dynamic Voltage Scaling Function; PartNumber: LM3370SD-4221; Manufacturer: National Semiconductor; CompType: MiscPower; PackageTopMarking: NS*UZXYTT*S0003YB; PowerWise: Y; FirstPublished: 4-Dec-2008; DatasheetVersion: Jan-2008; PackageVersion: revA, Dec-2004; PackageReference: SDA16B; Publisher: Altium Limited; PackageDescription: LLP, Plastic, Dual, 5 x 4 x 0.8mm, 16 Lead, 0.5mm Pitch, No Pullback; RoHS: Y; PinCount: 16; DigiKeyPartNumber: LM3370SD-4221CT-ND; ComponentLink1Description: LM3370 Datasheet; ComponentLink1URL: http://www.national.com/ds/LM/LM3370.pdf; ComponentLink2Description: LM3370 Web Page; ComponentLink2URL: http://www.national.com/pf/LM/LM3370.html; ComponentLink3Description: SDA16B Package Page; ComponentLink3URL: http://www.national.com/packaging/folders/sda16b.html
footprint SDA16B (SON, 16-Leads, Body 5x4mm, Pitch 0.5mm, NSC Recommended)
pins: 1 VIN2 (power) "Power supply voltage input to PFET and NFET switches for Buck 2", 2 SW2 (power) "Buck 2 Switch Pin", 3 PGND2 (power) "Buck 2 Power Ground", 4 VDD (power) "Signal supply voltage input, VDDmust be equal or greater of the two inputs (VIN1& VIN2)", 5 SGND (power) "Signal GND", 6 PGND1 (power) "Buck 1 Power Ground", 7 SW1 (power) "Buck 1 Switch Pin", 8 VIN1 (power) "Power supply voltage input to PFET and NFET switches for Buck 1", 9 FB1 (in) "Analog Feedback Input for Buck 1", 10 SDA (io) "I2C Compatible Data, a 2 kOhm pull up resistor is required", 11 SCL (in) "I2C Compatible Clock, a 2 kOhm pull up resistor is required", 12 nPOR1 (oc) "Power ON Reset for Buck 1, Open drain output Low when Buck 1 output is 92% of target output.", 13 nPOR2 (oc) "Power ON Reset for Buck 2, Open drain output Low when Buck 2 output is 92% of target output.", 14 EN1 (in) "Buck 1 Enable", 15 EN2 (in) "Buck 2 Enable", 16 FB2 (in) "Analog feedback for Buck 2", 17 DAP (power)

## LM3370TL-3006
designator U?
Dual Synchronous Step-Down DC-DC Converter with Dynamic Voltage Scaling Function; PartNumber: LM3370TL-3006; Manufacturer: National Semiconductor; CompType: MiscPower; PackageTopMarking: XYTT*I SPUB; PowerWise: Y; FirstPublished: 4-Dec-2008; DatasheetVersion: Jan-2008; PackageVersion: revC, Jan-2004; PackageReference: TLA20DWA; Publisher: Altium Limited; PackageDescription: Thin Micro SMD, 20 Bump (Large), 0.5mm Pitch; RoHS: Y; PinCount: 20; DigiKeyPartNumber: LM3370TL-3006CT-ND; Code_JEDEC: MO-211-DG; ComponentLink1Description: LM3370 Datasheet; ComponentLink1URL: http://www.national.com/ds/LM/LM3370.pdf; ComponentLink2Description: LM3370 Web Page; ComponentLink2URL: http://www.national.com/pf/LM/LM3370.html; ComponentLink3Description: TLA20DWA Package Page; ComponentLink3URL: http://www.national.com/packaging/folders/tla20dwa.html
footprint TLA20DWA (Micro SMD, 20-Leads, Body 3x2.05mm, Pitch 0.5mm, NSC Recommended)
pins: A1 SW1 (power) "Buck 1 Switch Pin", A2 VIN1 (power) "Power supply voltage input to PFET and NFET switches for Buck 1", A3 SGND (power) "Signal GND", A4 FB1 (in) "Analog Feedback Input for Buck 1", B1 PGND1 (power) "Buck 1 Power Ground", B2 PGND1_S (in) "Buck 1 Power Ground Sense", B3 SDA (io) "I2C Compatible Data, a 2 kOhm pull up resistor is required", B4 SCL (in) "I2C Compatible Clock, a 2 kOhm pull up resistor is required", C1 VDD (power) "Signal supply voltage input.", C2 SGND (power) "Signal GND", C3 nPOR1 (oc) "Power ON Reset for Buck 1, Open drain output Low when Buck 1 output is 92% of target output.", C4 nPOR2 (oc) "Power ON Reset for Buck 2, Open drain output Low when Buck 2 output is 92% of target output.", D1 PGND2 (power) "Buck 2 Power Ground", D2 PGND2_S (in) "Buck 2 Power Ground Sense", D3 EN2 (in) "Buck 2 Enable", D4 EN1 (in) "Buck 1 Enable", E1 SW2 (power) "Buck 2 Switch Pin", E2 VIN2 (power) "Power supply voltage input to PFET and NFET switches for Buck 2", E3 SGND (power) "Signal GND", E4 FB2 (in) "Analog feedback for Buck 2"

## LM3370TL-3008
designator U?
Dual Synchronous Step-Down DC-DC Converter with Dynamic Voltage Scaling Function; PartNumber: LM3370TL-3008; Manufacturer: National Semiconductor; CompType: MiscPower; PackageTopMarking: XYTT*I SPTB; PowerWise: Y; FirstPublished: 4-Dec-2008; DatasheetVersion: Jan-2008; PackageVersion: revC, Jan-2004; PackageReference: TLA20DWA; Publisher: Altium Limited; PackageDescription: Thin Micro SMD, 20 Bump (Large), 0.5mm Pitch; RoHS: Y; PinCount: 20; DigiKeyPartNumber: LM3370TL-3008EV-ND; Code_JEDEC: MO-211-DG; ComponentLink1Description: LM3370 Datasheet; ComponentLink1URL: http://www.national.com/ds/LM/LM3370.pdf; ComponentLink2Description: LM3370 Web Page; ComponentLink2URL: http://www.national.com/pf/LM/LM3370.html; ComponentLink3Description: TLA20DWA Package Page; ComponentLink3URL: http://www.national.com/packaging/folders/tla20dwa.html
footprint TLA20DWA (Micro SMD, 20-Leads, Body 3x2.05mm, Pitch 0.5mm, NSC Recommended)
pins: A1 SW1 (power) "Buck 1 Switch Pin", A2 VIN1 (power) "Power supply voltage input to PFET and NFET switches for Buck 1", A3 SGND (power) "Signal GND", A4 FB1 (in) "Analog Feedback Input for Buck 1", B1 PGND1 (power) "Buck 1 Power Ground", B2 PGND1_S (in) "Buck 1 Power Ground Sense", B3 SDA (io) "I2C Compatible Data, a 2 kOhm pull up resistor is required", B4 SCL (in) "I2C Compatible Clock, a 2 kOhm pull up resistor is required", C1 VDD (power) "Signal supply voltage input.", C2 SGND (power) "Signal GND", C3 nPOR1 (oc) "Power ON Reset for Buck 1, Open drain output Low when Buck 1 output is 92% of target output.", C4 nPOR2 (oc) "Power ON Reset for Buck 2, Open drain output Low when Buck 2 output is 92% of target output.", D1 PGND2 (power) "Buck 2 Power Ground", D2 PGND2_S (in) "Buck 2 Power Ground Sense", D3 EN2 (in) "Buck 2 Enable", D4 EN1 (in) "Buck 1 Enable", E1 SW2 (power) "Buck 2 Switch Pin", E2 VIN2 (power) "Power supply voltage input to PFET and NFET switches for Buck 2", E3 SGND (power) "Signal GND", E4 FB2 (in) "Analog feedback for Buck 2"

## LM3370TL-3022
designator U?
Dual Synchronous Step-Down DC-DC Converter with Dynamic Voltage Scaling Function; PartNumber: LM3370TL-3022; Manufacturer: National Semiconductor; CompType: MiscPower; PackageTopMarking: XYTT*I STHB; PowerWise: N; FirstPublished: 4-Dec-2008; DatasheetVersion: Jan-2008; PackageVersion: revC, Jan-2004; PackageReference: TLA20DWA; Publisher: Altium Limited; PackageDescription: Thin Micro SMD, 20 Bump (Large), 0.5mm Pitch; RoHS: Y; PinCount: 20; DigiKeyPartNumber: LM3370TL-3022CT-ND; Code_JEDEC: MO-211-DG; ComponentLink1Description: LM3370 Datasheet; ComponentLink1URL: http://www.national.com/ds/LM/LM3370.pdf; ComponentLink2Description: LM3370 Web Page; ComponentLink2URL: http://www.national.com/pf/LM/LM3370.html; ComponentLink3Description: TLA20DWA Package Page; ComponentLink3URL: http://www.national.com/packaging/folders/tla20dwa.html
footprint TLA20DWA (Micro SMD, 20-Leads, Body 3x2.05mm, Pitch 0.5mm, NSC Recommended)
pins: A1 SW1 (power) "Buck 1 Switch Pin", A2 VIN1 (power) "Power supply voltage input to PFET and NFET switches for Buck 1", A3 SGND (power) "Signal GND", A4 FB1 (in) "Analog Feedback Input for Buck 1", B1 PGND1 (power) "Buck 1 Power Ground", B2 PGND1_S (in) "Buck 1 Power Ground Sense", B3 SDA (io) "I2C Compatible Data, a 2 kOhm pull up resistor is required", B4 SCL (in) "I2C Compatible Clock, a 2 kOhm pull up resistor is required", C1 VDD (power) "Signal supply voltage input.", C2 SGND (power) "Signal GND", C3 nPOR1 (oc) "Power ON Reset for Buck 1, Open drain output Low when Buck 1 output is 92% of target output.", C4 nPOR2 (oc) "Power ON Reset for Buck 2, Open drain output Low when Buck 2 output is 92% of target output.", D1 PGND2 (power) "Buck 2 Power Ground", D2 PGND2_S (in) "Buck 2 Power Ground Sense", D3 EN2 (in) "Buck 2 Enable", D4 EN1 (in) "Buck 1 Enable", E1 SW2 (power) "Buck 2 Switch Pin", E2 VIN2 (power) "Power supply voltage input to PFET and NFET switches for Buck 2", E3 SGND (power) "Signal GND", E4 FB2 (in) "Analog feedback for Buck 2"

## LM3370TL-3206
designator U?
Dual Synchronous Step-Down DC-DC Converter with Dynamic Voltage Scaling Function; PartNumber: LM3370TL-3206; Manufacturer: National Semiconductor; CompType: MiscPower; PackageTopMarking: XYTT*I SPXB; PowerWise: Y; FirstPublished: 4-Dec-2008; DatasheetVersion: Jan-2008; PackageVersion: revC, Jan-2004; PackageReference: TLA20DWA; Publisher: Altium Limited; PackageDescription: Thin Micro SMD, 20 Bump (Large), 0.5mm Pitch; RoHS: Y; PinCount: 20; DigiKeyPartNumber: LM3370TL-3206CT-ND; Code_JEDEC: MO-211-DG; ComponentLink1Description: LM3370 Datasheet; ComponentLink1URL: http://www.national.com/ds/LM/LM3370.pdf; ComponentLink2Description: LM3370 Web Page; ComponentLink2URL: http://www.national.com/pf/LM/LM3370.html; ComponentLink3Description: TLA20DWA Package Page; ComponentLink3URL: http://www.national.com/packaging/folders/tla20dwa.html
footprint TLA20DWA (Micro SMD, 20-Leads, Body 3x2.05mm, Pitch 0.5mm, NSC Recommended)
pins: A1 SW1 (power) "Buck 1 Switch Pin", A2 VIN1 (power) "Power supply voltage input to PFET and NFET switches for Buck 1", A3 SGND (power) "Signal GND", A4 FB1 (in) "Analog Feedback Input for Buck 1", B1 PGND1 (power) "Buck 1 Power Ground", B2 PGND1_S (in) "Buck 1 Power Ground Sense", B3 SDA (io) "I2C Compatible Data, a 2 kOhm pull up resistor is required", B4 SCL (in) "I2C Compatible Clock, a 2 kOhm pull up resistor is required", C1 VDD (power) "Signal supply voltage input.", C2 SGND (power) "Signal GND", C3 nPOR1 (oc) "Power ON Reset for Buck 1, Open drain output Low when Buck 1 output is 92% of target output.", C4 nPOR2 (oc) "Power ON Reset for Buck 2, Open drain output Low when Buck 2 output is 92% of target output.", D1 PGND2 (power) "Buck 2 Power Ground", D2 PGND2_S (in) "Buck 2 Power Ground Sense", D3 EN2 (in) "Buck 2 Enable", D4 EN1 (in) "Buck 1 Enable", E1 SW2 (power) "Buck 2 Switch Pin", E2 VIN2 (power) "Power supply voltage input to PFET and NFET switches for Buck 2", E3 SGND (power) "Signal GND", E4 FB2 (in) "Analog feedback for Buck 2"

## LM3370TL-3607
designator U?
Dual Synchronous Step-Down DC-DC Converter with Dynamic Voltage Scaling Function; PartNumber: LM3370TL-3607; Manufacturer: National Semiconductor; CompType: MiscPower; PackageTopMarking: XYTT*I SPSB; PowerWise: Y; FirstPublished: 4-Dec-2008; DatasheetVersion: Jan-2008; PackageVersion: revC, Jan-2004; PackageReference: TLA20DWA; Publisher: Altium Limited; PackageDescription: Thin Micro SMD, 20 Bump (Large), 0.5mm Pitch; RoHS: Y; PinCount: 20; DigiKeyPartNumber: LM3370TL-3607CT-ND; Code_JEDEC: MO-211-DG; ComponentLink1Description: LM3370 Datasheet; ComponentLink1URL: http://www.national.com/ds/LM/LM3370.pdf; ComponentLink2Description: LM3370 Web Page; ComponentLink2URL: http://www.national.com/pf/LM/LM3370.html; ComponentLink3Description: TLA20DWA Package Page; ComponentLink3URL: http://www.national.com/packaging/folders/tla20dwa.html
footprint TLA20DWA (Micro SMD, 20-Leads, Body 3x2.05mm, Pitch 0.5mm, NSC Recommended)
pins: A1 SW1 (power) "Buck 1 Switch Pin", A2 VIN1 (power) "Power supply voltage input to PFET and NFET switches for Buck 1", A3 SGND (power) "Signal GND", A4 FB1 (in) "Analog Feedback Input for Buck 1", B1 PGND1 (power) "Buck 1 Power Ground", B2 PGND1_S (in) "Buck 1 Power Ground Sense", B3 SDA (io) "I2C Compatible Data, a 2 kOhm pull up resistor is required", B4 SCL (in) "I2C Compatible Clock, a 2 kOhm pull up resistor is required", C1 VDD (power) "Signal supply voltage input.", C2 SGND (power) "Signal GND", C3 nPOR1 (oc) "Power ON Reset for Buck 1, Open drain output Low when Buck 1 output is 92% of target output.", C4 nPOR2 (oc) "Power ON Reset for Buck 2, Open drain output Low when Buck 2 output is 92% of target output.", D1 PGND2 (power) "Buck 2 Power Ground", D2 PGND2_S (in) "Buck 2 Power Ground Sense", D3 EN2 (in) "Buck 2 Enable", D4 EN1 (in) "Buck 1 Enable", E1 SW2 (power) "Buck 2 Switch Pin", E2 VIN2 (power) "Power supply voltage input to PFET and NFET switches for Buck 2", E3 SGND (power) "Signal GND", E4 FB2 (in) "Analog feedback for Buck 2"

## LM3370TL-3806
designator U?
Dual Synchronous Step-Down DC-DC Converter with Dynamic Voltage Scaling Function; PartNumber: LM3370TL-3806; Manufacturer: National Semiconductor; CompType: MiscPower; PackageTopMarking: XYTT*I SPVB; PowerWise: Y; FirstPublished: 4-Dec-2008; DatasheetVersion: Jan-2008; PackageVersion: revC, Jan-2004; PackageReference: TLA20DWA; Publisher: Altium Limited; PackageDescription: Thin Micro SMD, 20 Bump (Large), 0.5mm Pitch; RoHS: Y; PinCount: 20; DigiKeyPartNumber: LM3370TL-3806CT-ND; Code_JEDEC: MO-211-DG; ComponentLink1Description: LM3370 Datasheet; ComponentLink1URL: http://www.national.com/ds/LM/LM3370.pdf; ComponentLink2Description: LM3370 Web Page; ComponentLink2URL: http://www.national.com/pf/LM/LM3370.html; ComponentLink3Description: TLA20DWA Package Page; ComponentLink3URL: http://www.national.com/packaging/folders/tla20dwa.html
footprint TLA20DWA (Micro SMD, 20-Leads, Body 3x2.05mm, Pitch 0.5mm, NSC Recommended)
pins: A1 SW1 (power) "Buck 1 Switch Pin", A2 VIN1 (power) "Power supply voltage input to PFET and NFET switches for Buck 1", A3 SGND (power) "Signal GND", A4 FB1 (in) "Analog Feedback Input for Buck 1", B1 PGND1 (power) "Buck 1 Power Ground", B2 PGND1_S (in) "Buck 1 Power Ground Sense", B3 SDA (io) "I2C Compatible Data, a 2 kOhm pull up resistor is required", B4 SCL (in) "I2C Compatible Clock, a 2 kOhm pull up resistor is required", C1 VDD (power) "Signal supply voltage input.", C2 SGND (power) "Signal GND", C3 nPOR1 (oc) "Power ON Reset for Buck 1, Open drain output Low when Buck 1 output is 92% of target output.", C4 nPOR2 (oc) "Power ON Reset for Buck 2, Open drain output Low when Buck 2 output is 92% of target output.", D1 PGND2 (power) "Buck 2 Power Ground", D2 PGND2_S (in) "Buck 2 Power Ground Sense", D3 EN2 (in) "Buck 2 Enable", D4 EN1 (in) "Buck 1 Enable", E1 SW2 (power) "Buck 2 Switch Pin", E2 VIN2 (power) "Power supply voltage input to PFET and NFET switches for Buck 2", E3 SGND (power) "Signal GND", E4 FB2 (in) "Analog feedback for Buck 2"

## LM3401MM
designator U?
Hysteretic PFET Controller for High Power LED Drive; PartNumber: LM3401MM; Manufacturer: National Semiconductor; CompType: MiscPower; PackageTopMarking: ZXTT*SNHB; PowerWise: Y; FirstPublished: 4-Dec-2008; DatasheetVersion: Mar-2008; PackageVersion: revF, Apr-2008; PackageReference: MUA08A; Publisher: Altium Limited; PackageDescription: MINI SOIC, .118 x .118 x .034in, 8 Lead, .0256in Pitch; RoHS: Y; PinCount: 8; DigiKeyPartNumber: LM3401MMCT-ND; Code_JEDEC: MO-187-AA; ComponentLink1Description: LM3401 Datasheet; ComponentLink1URL: http://www.national.com/ds/LM/LM3401.pdf; ComponentLink2Description: LM3401 Web Page; ComponentLink2URL: http://www.national.com/pf/LM/LM3401.html; ComponentLink3Description: MUA08A Package Page; ComponentLink3URL: http://www.national.com/packaging/folders/mua08a.html
footprint MUA08A_N (TSOP, 8-Leads, Body 3x3mm, Pitch 0.65mm, IPC Medium Density)
footprint MUA08A_L (TSOP, 8-Leads, Body 3x3mm, Pitch 0.65mm, IPC High Density)
footprint MUA08A_M (TSOP, 8-Leads, Body 3x3mm, Pitch 0.65mm, IPC Low Density)
pins: 1 CS (in), 2 DIM (in), 3 SNS (in), 4 HYS (in), 5 GND (power), 6 HG (out), 7 VIN (power), 8 ILIM (in)

## LM3402HVMM
designator U?
0.5A Constant Current Buck Regulator for High Power LED Drivers; PartNumber: LM3402HVMM; Manufacturer: National Semiconductor; CompType: MiscPower; PackageTopMarking: ZXTT*SNFB; PowerWise: Y; FirstPublished: 4-Dec-2008; DatasheetVersion: Jun-2007; PackageVersion: revF, Apr-2008; PackageReference: MUA08A; Publisher: Altium Limited; PackageDescription: MINI SOIC, .118 x .118 x .034in, 8 Lead, .0256in Pitch; RoHS: Y; PinCount: 8; DigiKeyPartNumber: LM3402HVMMCT-ND; Code_JEDEC: MO-187-AA; ComponentLink1Description: LM3402HV Datasheet; ComponentLink1URL: http://www.national.com/ds/LM/LM3402HV.pdf; ComponentLink2Description: LM3402HV Web Page; ComponentLink2URL: http://www.national.com/pf/LM/LM3402HV.html; ComponentLink3Description: MUA08A Package Page; ComponentLink3URL: http://www.national.com/packaging/folders/mua08a.html
footprint MUA08A_N (TSOP, 8-Leads, Body 3x3mm, Pitch 0.65mm, IPC Medium Density)
footprint MUA08A_L (TSOP, 8-Leads, Body 3x3mm, Pitch 0.65mm, IPC High Density)
footprint MUA08A_M (TSOP, 8-Leads, Body 3x3mm, Pitch 0.65mm, IPC Low Density)
pins: 1 SW (power), 2 BOOT (in), 3 DIM (in), 4 GND (power), 5 CS (in), 6 RON (in), 7 VCC (power), 8 VIN (power)

## LM3402HVMR
designator U?
0.5A Constant Current Buck Regulator for High Power LED Drivers; PartNumber: LM3402HVMR; Manufacturer: National Semiconductor; CompType: MiscPower; PackageTopMarking: NSXYTT*L3402*HVMR; PowerWise: N; FirstPublished: 4-Dec-2008; DatasheetVersion: Jun-2007; PackageVersion: revB, Dec-2007; PackageReference: MRA08B; Publisher: Altium Limited; PackageDescription: Molded, PSOP .193 x .154 x .058in, 8 Lead, .050in Pitch, Large DAP; RoHS: Y; PinCount: 8; DigiKeyPartNumber: LM3402HVMR-ND; Code_JEDEC: MS-012-AA; ComponentLink1Description: LM3402HV Datasheet; ComponentLink1URL: http://www.national.com/ds/LM/LM3402HV.pdf; ComponentLink2Description: LM3402HV Web Page; ComponentLink2URL: http://www.national.com/pf/LM/LM3402HV.html; ComponentLink3Description: MRA08B Package Page; ComponentLink3URL: http://www.national.com/packaging/folders/mra08b.html
footprint MRA08B_N (SOIC, 8-Leads, Body 4.9x3.9mm, Pitch 1.27mm, Exposed Pad, IPC Medium Density)
footprint MRA08B_L (SOIC, 8-Leads, Body 4.9x3.9mm, Pitch 1.27mm, Exposed Pad, IPC High Density)
footprint MRA08B_M (SOIC, 8-Leads, Body 4.9x3.9mm, Pitch 1.27mm, Exposed Pad, IPC Low Density)
pins: 1 SW (power), 2 BOOT (in), 3 DIM (in), 4 GND (power), 5 CS (in), 6 RON (in), 7 VCC (power), 8 VIN (power), 9 DAP (power)

## LM3402MM
designator U?
0.5A Constant Current Buck Regulator for High Power LED Drivers; PartNumber: LM3402MM; Manufacturer: National Semiconductor; CompType: MiscPower; PackageTopMarking: ZXTT*SNEB; PowerWise: Y; FirstPublished: 4-Dec-2008; DatasheetVersion: Jun-2007; PackageVersion: revF, Apr-2008; PackageReference: MUA08A; Publisher: Altium Limited; PackageDescription: MINI SOIC, .118 x .118 x .034in, 8 Lead, .0256in Pitch; RoHS: Y; PinCount: 8; DigiKeyPartNumber: LM3402MMCT-ND; Code_JEDEC: MO-187-AA; ComponentLink1Description: LM3402 Datasheet; ComponentLink1URL: http://www.national.com/ds/LM/LM3402.pdf; ComponentLink2Description: LM3402 Web Page; ComponentLink2URL: http://www.national.com/pf/LM/LM3402.html; ComponentLink3Description: MUA08A Package Page; ComponentLink3URL: http://www.national.com/packaging/folders/mua08a.html
footprint MUA08A_N (TSOP, 8-Leads, Body 3x3mm, Pitch 0.65mm, IPC Medium Density)
footprint MUA08A_L (TSOP, 8-Leads, Body 3x3mm, Pitch 0.65mm, IPC High Density)
footprint MUA08A_M (TSOP, 8-Leads, Body 3x3mm, Pitch 0.65mm, IPC Low Density)
pins: 1 SW (power), 2 BOOT (in), 3 DIM (in), 4 GND (power), 5 CS (in), 6 RON (in), 7 VCC (power), 8 VIN (power)